# Altium footprint library Connector_Molex_Milligrid.PcbLib: 55 footprints (part 1 of 4)
Each footprint in its own frame and in the unit in brackets; x right, y up, seen from the top. Pads: shape width x height; smd on the part's side, far side on the other; paste and mask are expansions set on the pad; w line width, h text height; cw(c..) or ccw(c..) is an arc to the next point about the centre after c.
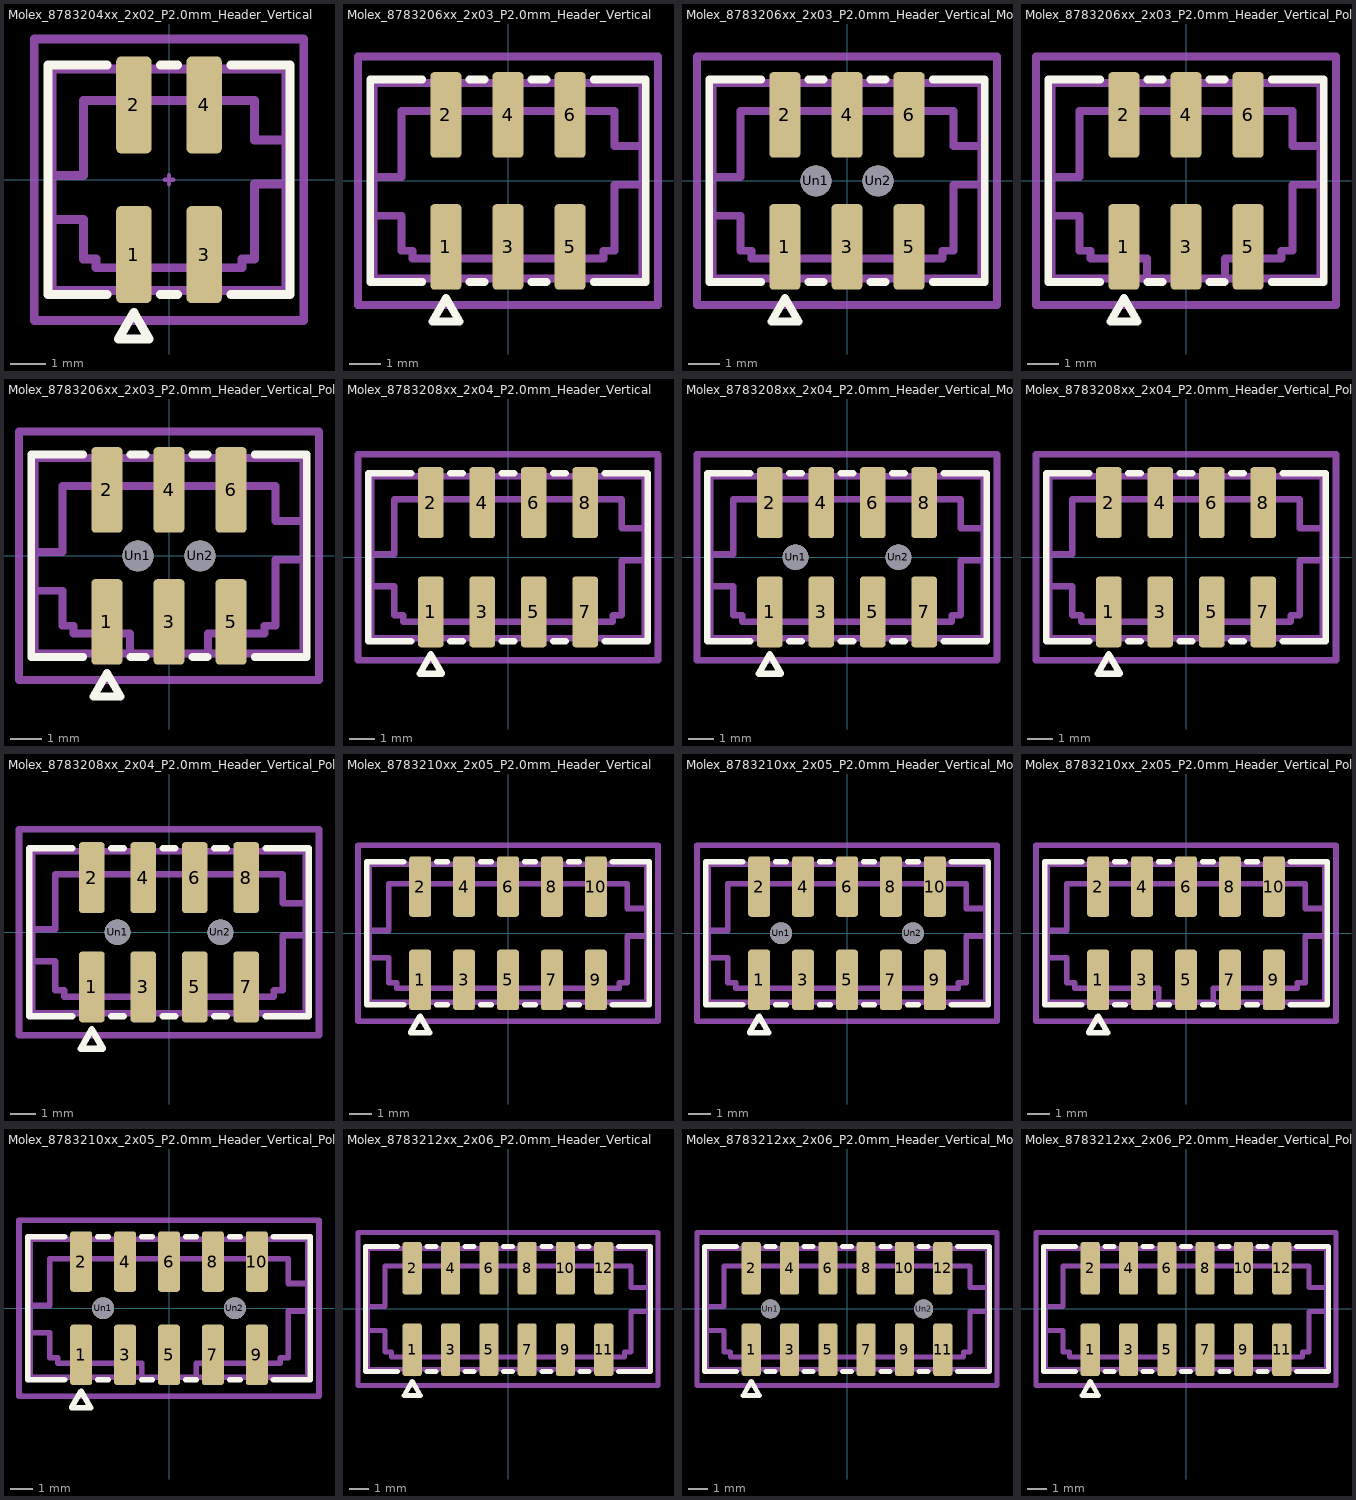
[diagram p0: the footprints below, top view; thin cyan lines are the x and y axes]

## Molex_8783204xx_2x02_P2.0mm_Header_Vertical [mm]
pads (4):
  rrect25% 1x2.75 smd: 1(-1,-2.125) 2(-1,2.125) 3(1,-2.125) 4(1,2.125)
F.SilkS:
  lines w0.254: -1.76,-3.26 -3.435,-3.26 -3.435,3.26 -1.76,3.26 ; -0.24,-3.26 0.24,-3.26 ; -0.24,3.26 0.24,3.26 ; 1.76,-3.26 3.435,-3.26 3.435,3.26 1.76,3.26 ; -1.433,-4.525 -0.567,-4.525 -1,-3.775 -1.433,-4.525
Top Component Center:
  lines w0.127: -0.127,0 0.127,0 ; 0,-0.127 0,0.127
Top Assembly:
  lines w0.254: -3.325,-1.125 -2.425,-1.125 -2.425,-2.25 -2.075,-2.25 -2.075,-2.5 0,-2.5 2.075,-2.5 2.075,-2.25 2.425,-2.25 2.425,-0.125 3.325,-0.125 ; -3.325,0.125 -2.425,0.125 -2.425,2.25 2.425,2.25 2.425,1.125 3.325,1.125 ; -1.325,-3.15 -1,-2.5 -0.675,-3.15 ; -3.325,-3.15 3.325,-3.15 3.325,3.15 -3.325,3.15 -3.325,-3.15
  text "'.Designator'" at -4.047,-0.84 h1
Top Courtyard:
  lines w0.254: -3.83,-4 3.83,-4 3.83,4 -3.83,4 -3.83,-4
Top Designator:
  text ".Designator" at -7.737,-0.77 h1.52

## Molex_8783206xx_2x03_P2.0mm_Header_Vertical [mm]
pads (6):
  rrect25% 1x2.75 smd: 1(-2,-2.125) 2(-2,2.125) 3(0,-2.125) 4(0,2.125) 5(2,-2.125) 6(2,2.125)
F.SilkS:
  lines w0.254: -2.76,-3.26 -4.435,-3.26 -4.435,3.26 -2.76,3.26 ; -1.24,-3.26 -0.76,-3.26 ; -1.24,3.26 -0.76,3.26 ; 0.76,-3.26 1.24,-3.26 ; 0.76,3.26 1.24,3.26 ; 2.76,-3.26 4.435,-3.26 4.435,3.26 2.76,3.26 ; -2.433,-4.525 -1.567,-4.525 -2,-3.775 -2.433,-4.525
Top Assembly:
  lines w0.254: -4.325,-1.125 -3.425,-1.125 -3.425,-2.25 -3.075,-2.25 -3.075,-2.5 0,-2.5 3.075,-2.5 3.075,-2.25 3.425,-2.25 3.425,-0.125 4.325,-0.125 ; -4.325,0.125 -3.425,0.125 -3.425,2.25 3.425,2.25 3.425,1.125 4.325,1.125 ; -2.325,-3.15 -2,-2.5 -1.675,-3.15 ; -4.325,-3.15 4.325,-3.15 4.325,3.15 -4.325,3.15 -4.325,-3.15
  text "'.Designator'" at -4.047,-0.84 h1
Top Courtyard:
  lines w0.254: -4.83,-4 4.83,-4 4.83,4 -4.83,4 -4.83,-4
Top Designator:
  text ".Designator" at -7.618,-0.77 h1.52

## Molex_8783206xx_2x03_P2.0mm_Header_Vertical_MountingPegs [mm]
pads (8):
  rrect25% 1x2.75 smd: 1(-2,-2.125) 2(-2,2.125) 3(0,-2.125) 4(0,2.125) 5(2,-2.125) 6(2,2.125)
  round 1 hole 1: Un1(-1,0) Un2(1,0)
F.SilkS:
  lines w0.254: -2.76,-3.26 -4.435,-3.26 -4.435,3.26 -2.76,3.26 ; -1.24,-3.26 -0.76,-3.26 ; -1.24,3.26 -0.76,3.26 ; 0.76,-3.26 1.24,-3.26 ; 0.76,3.26 1.24,3.26 ; 2.76,-3.26 4.435,-3.26 4.435,3.26 2.76,3.26 ; -2.433,-4.525 -1.567,-4.525 -2,-3.775 -2.433,-4.525
Top Assembly:
  lines w0.254: -4.325,-1.125 -3.425,-1.125 -3.425,-2.25 -3.075,-2.25 -3.075,-2.5 0,-2.5 3.075,-2.5 3.075,-2.25 3.425,-2.25 3.425,-0.125 4.325,-0.125 ; -4.325,0.125 -3.425,0.125 -3.425,2.25 3.425,2.25 3.425,1.125 4.325,1.125 ; -2.325,-3.15 -2,-2.5 -1.675,-3.15 ; -4.325,-3.15 4.325,-3.15 4.325,3.15 -4.325,3.15 -4.325,-3.15
  text "'.Designator'" at -4.047,-0.84 h1
Top Courtyard:
  lines w0.254: -4.83,-4 4.83,-4 4.83,4 -4.83,4 -4.83,-4
Top Designator:
  text ".Designator" at -7.618,-0.77 h1.52

## Molex_8783206xx_2x03_P2.0mm_Header_Vertical_Polarized [mm]
pads (6):
  rrect25% 1x2.75 smd: 1(-2,-2.125) 2(-2,2.125) 3(0,-2.125) 4(0,2.125) 5(2,-2.125) 6(2,2.125)
F.SilkS:
  lines w0.254: -2.76,-3.26 -4.435,-3.26 -4.435,3.26 -2.76,3.26 ; -1.24,-3.26 -0.76,-3.26 ; -1.24,3.26 -0.76,3.26 ; 0.76,-3.26 1.24,-3.26 ; 0.76,3.26 1.24,3.26 ; 2.76,-3.26 4.435,-3.26 4.435,3.26 2.76,3.26 ; -2.433,-4.525 -1.567,-4.525 -2,-3.775 -2.433,-4.525
Top Assembly:
  lines w0.254: -4.325,-1.125 -3.425,-1.125 -3.425,-2.25 -3.075,-2.25 -3.075,-2.5 -1.25,-2.5 -1.25,-3.15 ; -4.325,0.125 -3.425,0.125 -3.425,2.25 3.425,2.25 3.425,1.125 4.325,1.125 ; -2.325,-3.15 -2,-2.5 -1.675,-3.15 ; 1.25,-3.15 1.25,-2.5 3.075,-2.5 3.075,-2.25 3.425,-2.25 3.425,-0.125 4.325,-0.125 ; -4.325,-3.15 4.325,-3.15 4.325,3.15 -4.325,3.15 -4.325,-3.15
  text "'.Designator'" at -4.047,-0.84 h1
Top Courtyard:
  lines w0.254: -4.83,-4 4.83,-4 4.83,4 -4.83,4 -4.83,-4
Top Designator:
  text ".Designator" at -7.618,-0.77 h1.52

## Molex_8783206xx_2x03_P2.0mm_Header_Vertical_Polarized_MountingPegs [mm]
pads (8):
  rrect25% 1x2.75 smd: 1(-2,-2.125) 2(-2,2.125) 3(0,-2.125) 4(0,2.125) 5(2,-2.125) 6(2,2.125)
  round 1 hole 1: Un1(-1,0) Un2(1,0)
F.SilkS:
  lines w0.254: -2.76,-3.26 -4.435,-3.26 -4.435,3.26 -2.76,3.26 ; -1.24,-3.26 -0.76,-3.26 ; -1.24,3.26 -0.76,3.26 ; 0.76,-3.26 1.24,-3.26 ; 0.76,3.26 1.24,3.26 ; 2.76,-3.26 4.435,-3.26 4.435,3.26 2.76,3.26 ; -2.433,-4.525 -1.567,-4.525 -2,-3.775 -2.433,-4.525
Top Assembly:
  lines w0.254: -4.325,-1.125 -3.425,-1.125 -3.425,-2.25 -3.075,-2.25 -3.075,-2.5 -1.25,-2.5 -1.25,-3.15 ; -4.325,0.125 -3.425,0.125 -3.425,2.25 3.425,2.25 3.425,1.125 4.325,1.125 ; -2.325,-3.15 -2,-2.5 -1.675,-3.15 ; 1.25,-3.15 1.25,-2.5 3.075,-2.5 3.075,-2.25 3.425,-2.25 3.425,-0.125 4.325,-0.125 ; -4.325,-3.15 4.325,-3.15 4.325,3.15 -4.325,3.15 -4.325,-3.15
  text "'.Designator'" at -4.047,-0.84 h1
Top Courtyard:
  lines w0.254: -4.83,-4 4.83,-4 4.83,4 -4.83,4 -4.83,-4
Top Designator:
  text ".Designator" at -7.618,-0.77 h1.52

## Molex_8783208xx_2x04_P2.0mm_Header_Vertical [mm]
pads (8):
  rrect25% 1x2.75 smd: 1(-3,-2.125) 2(-3,2.125) 3(-1,-2.125) 4(-1,2.125) 5(1,-2.125) 6(1,2.125) 7(3,-2.125) 8(3,2.125)
F.SilkS:
  lines w0.254: -3.76,-3.26 -5.435,-3.26 -5.435,3.26 -3.76,3.26 ; -2.24,-3.26 -1.76,-3.26 ; -2.24,3.26 -1.76,3.26 ; -0.24,-3.26 0.24,-3.26 ; -0.24,3.26 0.24,3.26 ; 1.76,-3.26 2.24,-3.26 ; 1.76,3.26 2.24,3.26 ; 3.76,-3.26 5.435,-3.26 5.435,3.26 3.76,3.26 ; -3.433,-4.525 -2.567,-4.525 -3,-3.775 -3.433,-4.525
Top Assembly:
  lines w0.254: -5.325,-1.125 -4.425,-1.125 -4.425,-2.25 -4.075,-2.25 -4.075,-2.5 0,-2.5 4.075,-2.5 4.075,-2.25 4.425,-2.25 4.425,-0.125 5.325,-0.125 ; -5.325,0.125 -4.425,0.125 -4.425,2.25 4.425,2.25 4.425,1.125 5.325,1.125 ; -3.325,-3.15 -3,-2.5 -2.675,-3.15 ; -5.325,-3.15 5.325,-3.15 5.325,3.15 -5.325,3.15 -5.325,-3.15
  text "'.Designator'" at -4.047,-0.84 h1
Top Courtyard:
  lines w0.254: -5.83,-4 5.83,-4 5.83,4 -5.83,4 -5.83,-4
Top Designator:
  text ".Designator" at -7.618,-0.77 h1.52

## Molex_8783208xx_2x04_P2.0mm_Header_Vertical_MountingPegs [mm]
pads (10):
  rrect25% 1x2.75 smd: 1(-3,-2.125) 2(-3,2.125) 3(-1,-2.125) 4(-1,2.125) 5(1,-2.125) 6(1,2.125) 7(3,-2.125) 8(3,2.125)
  round 1 hole 1: Un1(-2,0) Un2(2,0)
F.SilkS:
  lines w0.254: -3.76,-3.26 -5.435,-3.26 -5.435,3.26 -3.76,3.26 ; -2.24,-3.26 -1.76,-3.26 ; -2.24,3.26 -1.76,3.26 ; -0.24,-3.26 0.24,-3.26 ; -0.24,3.26 0.24,3.26 ; 1.76,-3.26 2.24,-3.26 ; 1.76,3.26 2.24,3.26 ; 3.76,-3.26 5.435,-3.26 5.435,3.26 3.76,3.26 ; -3.433,-4.525 -2.567,-4.525 -3,-3.775 -3.433,-4.525
Top Assembly:
  lines w0.254: -5.325,-1.125 -4.425,-1.125 -4.425,-2.25 -4.075,-2.25 -4.075,-2.5 0,-2.5 4.075,-2.5 4.075,-2.25 4.425,-2.25 4.425,-0.125 5.325,-0.125 ; -5.325,0.125 -4.425,0.125 -4.425,2.25 4.425,2.25 4.425,1.125 5.325,1.125 ; -3.325,-3.15 -3,-2.5 -2.675,-3.15 ; -5.325,-3.15 5.325,-3.15 5.325,3.15 -5.325,3.15 -5.325,-3.15
  text "'.Designator'" at -4.047,-0.84 h1
Top Courtyard:
  lines w0.254: -5.83,-4 5.83,-4 5.83,4 -5.83,4 -5.83,-4
Top Designator:
  text ".Designator" at -7.618,-0.77 h1.52

## Molex_8783208xx_2x04_P2.0mm_Header_Vertical_Polarized [mm]
pads (8):
  rrect25% 1x2.75 smd: 1(-3,-2.125) 2(-3,2.125) 3(-1,-2.125) 4(-1,2.125) 5(1,-2.125) 6(1,2.125) 7(3,-2.125) 8(3,2.125)
F.SilkS:
  lines w0.254: -3.76,-3.26 -5.435,-3.26 -5.435,3.26 -3.76,3.26 ; -2.24,-3.26 -1.76,-3.26 ; -2.24,3.26 -1.76,3.26 ; -0.24,-3.26 0.24,-3.26 ; -0.24,3.26 0.24,3.26 ; 1.76,-3.26 2.24,-3.26 ; 1.76,3.26 2.24,3.26 ; 3.76,-3.26 5.435,-3.26 5.435,3.26 3.76,3.26 ; -3.433,-4.525 -2.567,-4.525 -3,-3.775 -3.433,-4.525
Top Assembly:
  lines w0.254: -5.325,-1.125 -4.425,-1.125 -4.425,-2.25 -4.075,-2.25 -4.075,-2.5 -1.25,-2.5 -1.25,-3.15 ; -5.325,0.125 -4.425,0.125 -4.425,2.25 4.425,2.25 4.425,1.125 5.325,1.125 ; -3.325,-3.15 -3,-2.5 -2.675,-3.15 ; 1.25,-3.15 1.25,-2.5 4.075,-2.5 4.075,-2.25 4.425,-2.25 4.425,-0.125 5.325,-0.125 ; -5.325,-3.15 5.325,-3.15 5.325,3.15 -5.325,3.15 -5.325,-3.15
  text "'.Designator'" at -4.047,-0.84 h1
Top Courtyard:
  lines w0.254: -5.83,-4 5.83,-4 5.83,4 -5.83,4 -5.83,-4
Top Designator:
  text ".Designator" at -7.618,-0.77 h1.52

## Molex_8783208xx_2x04_P2.0mm_Header_Vertical_Polarized_MountingPegs [mm]
pads (10):
  rrect25% 1x2.75 smd: 1(-3,-2.125) 2(-3,2.125) 3(-1,-2.125) 4(-1,2.125) 5(1,-2.125) 6(1,2.125) 7(3,-2.125) 8(3,2.125)
  round 1 hole 1: Un1(-2,0) Un2(2,0)
F.SilkS:
  lines w0.254: -3.76,-3.26 -5.435,-3.26 -5.435,3.26 -3.76,3.26 ; -2.24,-3.26 -1.76,-3.26 ; -2.24,3.26 -1.76,3.26 ; -0.24,-3.26 0.24,-3.26 ; -0.24,3.26 0.24,3.26 ; 1.76,-3.26 2.24,-3.26 ; 1.76,3.26 2.24,3.26 ; 3.76,-3.26 5.435,-3.26 5.435,3.26 3.76,3.26 ; -3.433,-4.525 -2.567,-4.525 -3,-3.775 -3.433,-4.525
Top Assembly:
  lines w0.254: -5.325,-1.125 -4.425,-1.125 -4.425,-2.25 -4.075,-2.25 -4.075,-2.5 -1.25,-2.5 -1.25,-3.15 ; -5.325,0.125 -4.425,0.125 -4.425,2.25 4.425,2.25 4.425,1.125 5.325,1.125 ; -3.325,-3.15 -3,-2.5 -2.675,-3.15 ; 1.25,-3.15 1.25,-2.5 4.075,-2.5 4.075,-2.25 4.425,-2.25 4.425,-0.125 5.325,-0.125 ; -5.325,-3.15 5.325,-3.15 5.325,3.15 -5.325,3.15 -5.325,-3.15
  text "'.Designator'" at -4.047,-0.84 h1
Top Courtyard:
  lines w0.254: -5.83,-4 5.83,-4 5.83,4 -5.83,4 -5.83,-4
Top Designator:
  text ".Designator" at -7.618,-0.77 h1.52

## Molex_8783210xx_2x05_P2.0mm_Header_Vertical [mm]
pads (10):
  rrect25% 1x2.75 smd: 1(-4,-2.125) 2(-4,2.125) 3(-2,-2.125) 4(-2,2.125) 5(0,-2.125) 6(0,2.125) 7(2,-2.125) 8(2,2.125) 9(4,-2.125) 10(4,2.125)
F.SilkS:
  lines w0.254: -4.76,-3.26 -6.435,-3.26 -6.435,3.26 -4.76,3.26 ; -3.24,-3.26 -2.76,-3.26 ; -3.24,3.26 -2.76,3.26 ; -1.24,-3.26 -0.76,-3.26 ; -1.24,3.26 -0.76,3.26 ; 0.76,-3.26 1.24,-3.26 ; 0.76,3.26 1.24,3.26 ; 2.76,-3.26 3.24,-3.26 ; 2.76,3.26 3.24,3.26 ; 4.76,-3.26 6.435,-3.26 6.435,3.26 4.76,3.26 ; -4.433,-4.525 -3.567,-4.525 -4,-3.775 -4.433,-4.525
Top Assembly:
  lines w0.254: -6.325,-1.125 -5.425,-1.125 -5.425,-2.25 -5.075,-2.25 -5.075,-2.5 0,-2.5 5.075,-2.5 5.075,-2.25 5.425,-2.25 5.425,-0.125 6.325,-0.125 ; -6.325,0.125 -5.425,0.125 -5.425,2.25 5.425,2.25 5.425,1.125 6.325,1.125 ; -4.325,-3.15 -4,-2.5 -3.675,-3.15 ; -6.325,-3.15 6.325,-3.15 6.325,3.15 -6.325,3.15 -6.325,-3.15
  text "'.Designator'" at -4.047,-0.84 h1
Top Courtyard:
  lines w0.254: -6.83,-4 6.83,-4 6.83,4 -6.83,4 -6.83,-4
Top Designator:
  text ".Designator" at -7.618,-0.77 h1.52

## Molex_8783210xx_2x05_P2.0mm_Header_Vertical_MountingPegs [mm]
pads (12):
  rrect25% 1x2.75 smd: 1(-4,-2.125) 2(-4,2.125) 3(-2,-2.125) 4(-2,2.125) 5(0,-2.125) 6(0,2.125) 7(2,-2.125) 8(2,2.125) 9(4,-2.125) 10(4,2.125)
  round 1 hole 1: Un1(-3,0) Un2(3,0)
F.SilkS:
  lines w0.254: -4.76,-3.26 -6.435,-3.26 -6.435,3.26 -4.76,3.26 ; -3.24,-3.26 -2.76,-3.26 ; -3.24,3.26 -2.76,3.26 ; -1.24,-3.26 -0.76,-3.26 ; -1.24,3.26 -0.76,3.26 ; 0.76,-3.26 1.24,-3.26 ; 0.76,3.26 1.24,3.26 ; 2.76,-3.26 3.24,-3.26 ; 2.76,3.26 3.24,3.26 ; 4.76,-3.26 6.435,-3.26 6.435,3.26 4.76,3.26 ; -4.433,-4.525 -3.567,-4.525 -4,-3.775 -4.433,-4.525
Top Assembly:
  lines w0.254: -6.325,-1.125 -5.425,-1.125 -5.425,-2.25 -5.075,-2.25 -5.075,-2.5 0,-2.5 5.075,-2.5 5.075,-2.25 5.425,-2.25 5.425,-0.125 6.325,-0.125 ; -6.325,0.125 -5.425,0.125 -5.425,2.25 5.425,2.25 5.425,1.125 6.325,1.125 ; -4.325,-3.15 -4,-2.5 -3.675,-3.15 ; -6.325,-3.15 6.325,-3.15 6.325,3.15 -6.325,3.15 -6.325,-3.15
  text "'.Designator'" at -4.047,-0.84 h1
Top Courtyard:
  lines w0.254: -6.83,-4 6.83,-4 6.83,4 -6.83,4 -6.83,-4
Top Designator:
  text ".Designator" at -7.618,-0.77 h1.52

## Molex_8783210xx_2x05_P2.0mm_Header_Vertical_Polarized [mm]
pads (10):
  rrect25% 1x2.75 smd: 1(-4,-2.125) 2(-4,2.125) 3(-2,-2.125) 4(-2,2.125) 5(0,-2.125) 6(0,2.125) 7(2,-2.125) 8(2,2.125) 9(4,-2.125) 10(4,2.125)
F.SilkS:
  lines w0.254: -4.76,-3.26 -6.435,-3.26 -6.435,3.26 -4.76,3.26 ; -3.24,-3.26 -2.76,-3.26 ; -3.24,3.26 -2.76,3.26 ; -1.24,-3.26 -0.76,-3.26 ; -1.24,3.26 -0.76,3.26 ; 0.76,-3.26 1.24,-3.26 ; 0.76,3.26 1.24,3.26 ; 2.76,-3.26 3.24,-3.26 ; 2.76,3.26 3.24,3.26 ; 4.76,-3.26 6.435,-3.26 6.435,3.26 4.76,3.26 ; -4.433,-4.525 -3.567,-4.525 -4,-3.775 -4.433,-4.525
Top Assembly:
  lines w0.254: -6.325,-1.125 -5.425,-1.125 -5.425,-2.25 -5.075,-2.25 -5.075,-2.5 -1.25,-2.5 -1.25,-3.15 ; -6.325,0.125 -5.425,0.125 -5.425,2.25 5.425,2.25 5.425,1.125 6.325,1.125 ; -4.325,-3.15 -4,-2.5 -3.675,-3.15 ; 1.25,-3.15 1.25,-2.5 5.075,-2.5 5.075,-2.25 5.425,-2.25 5.425,-0.125 6.325,-0.125 ; -6.325,-3.15 6.325,-3.15 6.325,3.15 -6.325,3.15 -6.325,-3.15
  text "'.Designator'" at -4.047,-0.84 h1
Top Courtyard:
  lines w0.254: -6.83,-4 6.83,-4 6.83,4 -6.83,4 -6.83,-4
Top Designator:
  text ".Designator" at -7.618,-0.77 h1.52

## Molex_8783210xx_2x05_P2.0mm_Header_Vertical_Polarized_MountingPegs [mm]
pads (12):
  rrect25% 1x2.75 smd: 1(-4,-2.125) 2(-4,2.125) 3(-2,-2.125) 4(-2,2.125) 5(0,-2.125) 6(0,2.125) 7(2,-2.125) 8(2,2.125) 9(4,-2.125) 10(4,2.125)
  round 1 hole 1: Un1(-3,0) Un2(3,0)
F.SilkS:
  lines w0.254: -4.76,-3.26 -6.435,-3.26 -6.435,3.26 -4.76,3.26 ; -3.24,-3.26 -2.76,-3.26 ; -3.24,3.26 -2.76,3.26 ; -1.24,-3.26 -0.76,-3.26 ; -1.24,3.26 -0.76,3.26 ; 0.76,-3.26 1.24,-3.26 ; 0.76,3.26 1.24,3.26 ; 2.76,-3.26 3.24,-3.26 ; 2.76,3.26 3.24,3.26 ; 4.76,-3.26 6.435,-3.26 6.435,3.26 4.76,3.26 ; -4.433,-4.525 -3.567,-4.525 -4,-3.775 -4.433,-4.525
Top Assembly:
  lines w0.254: -6.325,-1.125 -5.425,-1.125 -5.425,-2.25 -5.075,-2.25 -5.075,-2.5 -1.25,-2.5 -1.25,-3.15 ; -6.325,0.125 -5.425,0.125 -5.425,2.25 5.425,2.25 5.425,1.125 6.325,1.125 ; -4.325,-3.15 -4,-2.5 -3.675,-3.15 ; 1.25,-3.15 1.25,-2.5 5.075,-2.5 5.075,-2.25 5.425,-2.25 5.425,-0.125 6.325,-0.125 ; -6.325,-3.15 6.325,-3.15 6.325,3.15 -6.325,3.15 -6.325,-3.15
  text "'.Designator'" at -4.047,-0.84 h1
Top Courtyard:
  lines w0.254: -6.83,-4 6.83,-4 6.83,4 -6.83,4 -6.83,-4
Top Designator:
  text ".Designator" at -7.618,-0.77 h1.52

## Molex_8783212xx_2x06_P2.0mm_Header_Vertical [mm]
pads (12):
  rrect25% 1x2.75 smd: 1(-5,-2.125) 2(-5,2.125) 3(-3,-2.125) 4(-3,2.125) 5(-1,-2.125) 6(-1,2.125) 7(1,-2.125) 8(1,2.125) 9(3,-2.125) 10(3,2.125) 11(5,-2.125) 12(5,2.125)
F.SilkS:
  lines w0.254: -5.76,-3.26 -7.435,-3.26 -7.435,3.26 -5.76,3.26 ; -4.24,-3.26 -3.76,-3.26 ; -4.24,3.26 -3.76,3.26 ; -2.24,-3.26 -1.76,-3.26 ; -2.24,3.26 -1.76,3.26 ; -0.24,-3.26 0.24,-3.26 ; -0.24,3.26 0.24,3.26 ; 1.76,-3.26 2.24,-3.26 ; 1.76,3.26 2.24,3.26 ; 3.76,-3.26 4.24,-3.26 ; 3.76,3.26 4.24,3.26 ; 5.76,-3.26 7.435,-3.26 7.435,3.26 5.76,3.26 ; -5.433,-4.525 -4.567,-4.525 -5,-3.775 -5.433,-4.525
Top Assembly:
  lines w0.254: -7.325,-1.125 -6.425,-1.125 -6.425,-2.25 -6.075,-2.25 -6.075,-2.5 0,-2.5 6.075,-2.5 6.075,-2.25 6.425,-2.25 6.425,-0.125 7.325,-0.125 ; -7.325,0.125 -6.425,0.125 -6.425,2.25 6.425,2.25 6.425,1.125 7.325,1.125 ; -5.325,-3.15 -5,-2.5 -4.675,-3.15 ; -7.325,-3.15 7.325,-3.15 7.325,3.15 -7.325,3.15 -7.325,-3.15
  text "'.Designator'" at -4.047,-0.84 h1
Top Courtyard:
  lines w0.254: -7.83,-4 7.83,-4 7.83,4 -7.83,4 -7.83,-4
Top Designator:
  text ".Designator" at -7.618,-0.77 h1.52

## Molex_8783212xx_2x06_P2.0mm_Header_Vertical_MountingPegs [mm]
pads (14):
  rrect25% 1x2.75 smd: 1(-5,-2.125) 2(-5,2.125) 3(-3,-2.125) 4(-3,2.125) 5(-1,-2.125) 6(-1,2.125) 7(1,-2.125) 8(1,2.125) 9(3,-2.125) 10(3,2.125) 11(5,-2.125) 12(5,2.125)
  round 1 hole 1: Un1(-4,0) Un2(4,0)
F.SilkS:
  lines w0.254: -5.76,-3.26 -7.435,-3.26 -7.435,3.26 -5.76,3.26 ; -4.24,-3.26 -3.76,-3.26 ; -4.24,3.26 -3.76,3.26 ; -2.24,-3.26 -1.76,-3.26 ; -2.24,3.26 -1.76,3.26 ; -0.24,-3.26 0.24,-3.26 ; -0.24,3.26 0.24,3.26 ; 1.76,-3.26 2.24,-3.26 ; 1.76,3.26 2.24,3.26 ; 3.76,-3.26 4.24,-3.26 ; 3.76,3.26 4.24,3.26 ; 5.76,-3.26 7.435,-3.26 7.435,3.26 5.76,3.26 ; -5.433,-4.525 -4.567,-4.525 -5,-3.775 -5.433,-4.525
Top Assembly:
  lines w0.254: -7.325,-1.125 -6.425,-1.125 -6.425,-2.25 -6.075,-2.25 -6.075,-2.5 0,-2.5 6.075,-2.5 6.075,-2.25 6.425,-2.25 6.425,-0.125 7.325,-0.125 ; -7.325,0.125 -6.425,0.125 -6.425,2.25 6.425,2.25 6.425,1.125 7.325,1.125 ; -5.325,-3.15 -5,-2.5 -4.675,-3.15 ; -7.325,-3.15 7.325,-3.15 7.325,3.15 -7.325,3.15 -7.325,-3.15
  text "'.Designator'" at -4.047,-0.84 h1
Top Courtyard:
  lines w0.254: -7.83,-4 7.83,-4 7.83,4 -7.83,4 -7.83,-4
Top Designator:
  text ".Designator" at -7.618,-0.77 h1.52

## Molex_8783212xx_2x06_P2.0mm_Header_Vertical_Polarized [mm]
pads (12):
  rrect25% 1x2.75 smd: 1(-5,-2.125) 2(-5,2.125) 3(-3,-2.125) 4(-3,2.125) 5(-1,-2.125) 6(-1,2.125) 7(1,-2.125) 8(1,2.125) 9(3,-2.125) 10(3,2.125) 11(5,-2.125) 12(5,2.125)
F.SilkS:
  lines w0.254: -5.76,-3.26 -7.435,-3.26 -7.435,3.26 -5.76,3.26 ; -4.24,-3.26 -3.76,-3.26 ; -4.24,3.26 -3.76,3.26 ; -2.24,-3.26 -1.76,-3.26 ; -2.24,3.26 -1.76,3.26 ; -0.24,-3.26 0.24,-3.26 ; -0.24,3.26 0.24,3.26 ; 1.76,-3.26 2.24,-3.26 ; 1.76,3.26 2.24,3.26 ; 3.76,-3.26 4.24,-3.26 ; 3.76,3.26 4.24,3.26 ; 5.76,-3.26 7.435,-3.26 7.435,3.26 5.76,3.26 ; -5.433,-4.525 -4.567,-4.525 -5,-3.775 -5.433,-4.525
Top Assembly:
  lines w0.254: -7.325,-1.125 -6.425,-1.125 -6.425,-2.25 -6.075,-2.25 -6.075,-2.5 -1.25,-2.5 -1.25,-3.15 ; -7.325,0.125 -6.425,0.125 -6.425,2.25 6.425,2.25 6.425,1.125 7.325,1.125 ; -5.325,-3.15 -5,-2.5 -4.675,-3.15 ; 1.25,-3.15 1.25,-2.5 6.075,-2.5 6.075,-2.25 6.425,-2.25 6.425,-0.125 7.325,-0.125 ; -7.325,-3.15 7.325,-3.15 7.325,3.15 -7.325,3.15 -7.325,-3.15
  text "'.Designator'" at -4.047,-0.84 h1
Top Courtyard:
  lines w0.254: -7.83,-4 7.83,-4 7.83,4 -7.83,4 -7.83,-4
Top Designator:
  text ".Designator" at -7.618,-0.77 h1.52